# Altium footprint library aruna_pcb_card.PcbLib: 41 footprints (part 1 of 3)
Each footprint in its own frame and in the unit in brackets; x right, y up, seen from the top. Pads: shape width x height; smd on the part's side, far side on the other; paste and mask are expansions set on the pad; w line width, h text height; cw(c..) or ccw(c..) is an arc to the next point about the centre after c.
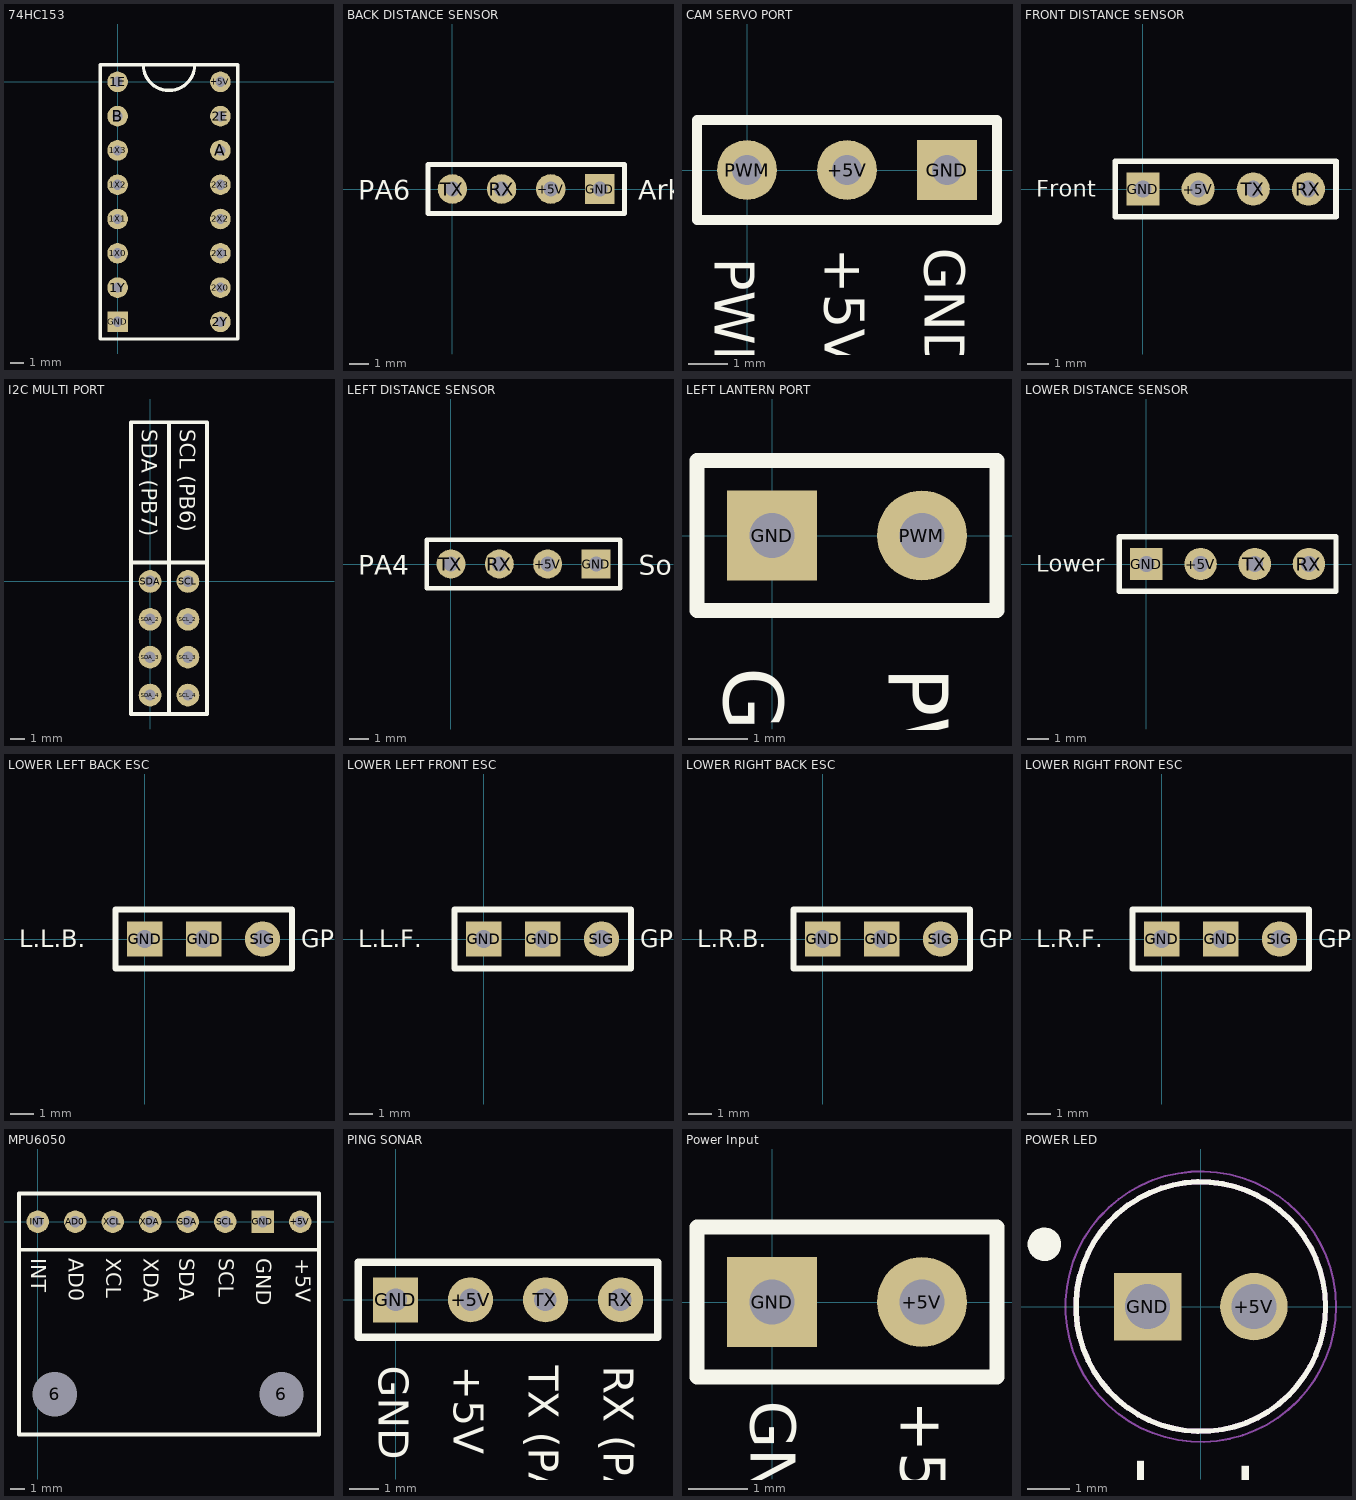
[diagram p0: the footprints below, top view; thin cyan lines are the x and y axes]

## 74HC153 [mil]
pads (16):
  round 60 hole 30: 1E(0,0) 1X0(0,-500) 1X1(0,-400) 1X2(0,-300) 1X3(0,-200) 1Y(0,-600) 2E(300,-100) 2X0(300,-600) 2X1(300,-500) 2X2(300,-400) 2X3(300,-300) 2Y(300,-700) +5V(300,0) A(300,-200) B(0,-100)
  rect 60x60 hole 30: GND(0,-700)
Top Overlay:
  lines w10: 75,50 ccw(c150,50) 150,-25 ccw(c150,50) 225,50 ; -50,-750 -50,50 350,50 350,-750 -50,-750
3D body "DIP-16 W7.62mm IC with Socket.stp": height 310.24, standoff -123.36, extent -50,-761.81 351.57,61.81

## BACK DISTANCE SENSOR [mil]
pads (4):
  round 60 hole 30: +5V(200,0) RX(100,0) TX(0,0)
  rect 60x60 hole 30: GND(300,0)
Top Overlay:
  lines w10: -50,-50 350,-50 350,50 -50,50 -50,-50
  text "PA6" at -192,-22 h40
  text "Arka" at 378,-22 h40
3D body "4 pin 1 Row 2.54mm Male Pin Header.stp": height 330, standoff -115, extent -50,-49 350,49

## CAM SERVO PORT [mil]
pads (3):
  round 60 hole 30: +5V(100,0) PWM(0,0)
  rect 60x60 hole 30: GND(200,0)
Top Overlay:
  lines w10: -50,-50 -50,50 250,50 250,-50 -50,-50
  text "PWM (PB1)" at -32,-87.99 h40
  text "+5V" at 78,-78 h40
  text "GND" at 178,-78 h40
3D body "3 pin 1 Row 2.54mm Male Pin Header.stp": height 350, standoff -80, extent -50,-50 250,50

## FRONT DISTANCE SENSOR [mil]
pads (4):
  round 60 hole 30: +5V(100,0) RX(300,0) TX(200,0)
  rect 60x60 hole 30: GND(0,0)
Top Overlay:
  lines w10: -50,-50 350,-50 350,50 -50,50 -50,-50
  text "Front" at -194,-14 h30
3D body "4 pin 1 Row 2.54mm Male Pin Header.stp": height 330, standoff -115, extent -50,-49 350,49

## I2C MULTI PORT [mil]
pads (8):
  round 60 hole 30: SCL(100,0) SCL_2(100,-100) SCL_3(100,-200) SCL_4(100,-300) SDA(0,0) SDA_2(0,-100) SDA_3(0,-200) SDA_4(0,-300)
Top Overlay:
  lines w10: -50,-350 50,-350 ; -50,-350 -50,420 50,420 ; -50,-350 150,-350 ; -50,-350 -50,50 150,50 150,-350 ; 50,-350 50,420 ; 50,-350 50,420 ; 50,-350 150,-350 ; 50,420 150,420 150,-350
  text "SDA (PB7)" at -22,402 h40
  text "SCL (PB6)" at 78,402 h40
3D body "8 pin 2 Row 2.54mm Male Pin Header.stp": height 329.92, standoff -114.96, extent -50,-350 148,50

## LEFT DISTANCE SENSOR [mil]
pads (4):
  round 60 hole 30: +5V(200,0) RX(100,0) TX(0,0)
  rect 60x60 hole 30: GND(300,0)
Top Overlay:
  lines w10: -50,-50 350,-50 350,50 -50,50 -50,-50
  text "PA4" at -192,-22 h40
  text "Sol" at 388,-22 h40
3D body "4 pin 1 Row 2.54mm Male Pin Header.stp": height 330, standoff -115, extent -50,-49 350,49

## LEFT LANTERN PORT [mil]
pads (2):
  rect 60x60 hole 30: GND(0,0)
  round 60 hole 30: PWM(100,0)
Top Overlay:
  lines w10: -50,-50 -50,50 150,50 150,-50 -50,-50
  text "GND" at -32,-87.99 h40
  text "PWM (PB0)" at 78,-88 h40
3D body "2 pin 1 Row 2.54mm Male Pin Header.stp": height 355, standoff -90, extent -50,-50 150,50

## LOWER DISTANCE SENSOR [mil]
pads (4):
  round 60 hole 30: +5V(100,0) RX(300,0) TX(200,0)
  rect 60x60 hole 30: GND(0,0)
Top Overlay:
  lines w10: -50,-50 350,-50 350,50 -50,50 -50,-50
  text "Lower" at -204,-14 h30
3D body "4 pin 1 Row 2.54mm Male Pin Header.stp": height 330, standoff -115, extent -50,-49 350,49

## LOWER LEFT BACK ESC [mil]
pads (3):
  rect 60x60 hole 30: GND(0,0) GND(100,0)
  round 60 hole 30: SIG(200,0)
Top Overlay:
  lines w10: -50,-50 -50,50 250,50 250,-50 -50,-50
  text "L.L.B." at -214,-14 h30
  text "GP26" at 266,-14 h30
3D body "3 pin 1 Row 2.54mm Male Pin Header.stp": height 350, standoff -80, extent -50,-50 250,50

## LOWER LEFT FRONT ESC [mil]
pads (3):
  rect 60x60 hole 30: GND(0,0) GND(100,0)
  round 60 hole 30: SIG(200,0)
Top Overlay:
  lines w10: -50,-50 -50,50 250,50 250,-50 -50,-50
  text "L.L.F." at -214,-14 h30
  text "GP21" at 266,-14 h30
3D body "3 pin 1 Row 2.54mm Male Pin Header.stp": height 350, standoff -80, extent -50,-50 250,50

## LOWER RIGHT BACK ESC [mil]
pads (3):
  rect 60x60 hole 30: GND(0,0) GND(100,0)
  round 60 hole 30: SIG(200,0)
Top Overlay:
  lines w10: -50,-50 -50,50 250,50 250,-50 -50,-50
  text "L.R.B." at -214,-14 h30
  text "GP22" at 266,-14 h30
3D body "3 pin 1 Row 2.54mm Male Pin Header.stp": height 350, standoff -80, extent -50,-50 250,50

## LOWER RIGHT FRONT ESC [mil]
pads (3):
  rect 60x60 hole 30: GND(0,0) GND(100,0)
  round 60 hole 30: SIG(200,0)
Top Overlay:
  lines w10: -50,-50 250,-50 250,50 -50,50 -50,-50
  text "L.R.F." at -214,-14 h30
  text "GP20" at 266,-14 h30
3D body "3 pin 1 Row 2.54mm Male Pin Header.stp": height 350, standoff -80, extent -50,-50 250,50

## MPU6050 [mil]
pads (10):
  round 60 hole 118.11: 6(45,-460) 6(650,-460)
  round 60 hole 30: +5V(700,0) AD0(100,0) INT(0,0) SCL(500,0) SDA(400,0) XCL(200,0) XDA(300,0)
  rect 60x60 hole 30: GND(600,0)
Top Overlay:
  lines w10: -50,-75 750,-75 ; -50,-75 -50,-567.13 750,-567.13 750,-75 ; -50,-75 750,-75 ; -50,-75 -50,75 750,75 750,-75
  text "GND" at 583,-98 h40
  text "+5V" at 688,-98 h40
  text "SCL" at 483,-98 h40
  text "SDA" at 378,-98 h40
  text "XDA" at 283,-98 h40
  text "XCL" at 183,-98 h40
  text "AD0" at 83,-98 h40
  text "INT" at -17,-98 h40
3D body "MPU6050 With Mounting Hardware.step": height 581.69, standoff -120.43, extent -52.33,-550.2 750,50.2

## PING SONAR [mil]
pads (4):
  round 60 hole 30: +5V(100,0) RX(300,0) TX(200,0)
  rect 60x60 hole 30: GND(0,0)
Top Overlay:
  lines w10: -50,-50 -50,50 350,50 350,-50 -50,-50
  text "TX (PA3)" at 178,-88 h40
  text "GND" at -22,-87.99 h40
  text "RX (PA2)" at 278,-88 h40
  text "+5V" at 78,-88 h40
3D body "4 pin 1 Row 2.54mm Male Pin Header.stp": height 330, standoff -115, extent -50,-49 350,49

## Power Input [mil]
pads (2):
  round 60 hole 30: +5V(100,0)
  rect 60x60 hole 30: GND(0,0)
Top Overlay:
  lines w10: -50,-50 150,-50 150,50 -50,50 -50,-50
  text "+5V" at 86,-66 h30
  text "GND" at -14,-66 h30
3D body "2 pin 1 Row 2.54mm Male Pin Header.stp": height 355, standoff -90, extent -50,-50 150,50

## POWER LED [mm]
pads (2):
  round 1.61 hole 1.07: +5V(1.27,0)
  rect 1.61x1.61 hole 1.07: GND(-1.27,0)
Top Overlay:
  circle w0.127: c0,0 r2.98
  circle w0.4: c-3.734,1.488 r0.2
  text "-" at -2.006,-3.581 h1.52
  text "+" at 0.406,-3.581 h1.52
Mechanical 13:
  circle w0.127: c0,0 r2.98
Mechanical 15:
  circle w0.05: c0,0 r3.23
3D body "L-53GD--3DModel-STEP-510211.STEP": height 9.6, standoff -26, extent -2.513,-2.95 2.921,2.95